# Altium schematic symbol library E32-433T20D.SchLib: 1 symbol
Pins are listed as number, name and electrical type; pins without a type are passive.

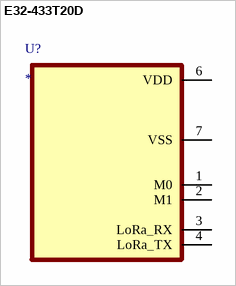
[diagram p0: symbol E32-433T20D]

## E32-433T20D
designator U?
footprint E32-433T20D
pins: 1 M0, 2 M1, 3 LoRa_RX, 4 LoRa_TX, 6 VDD, 7 VSS